# Altium schematic symbol library Logic Gates.SchLib: 1 symbol
Pins are listed as number, name and electrical type; pins without a type are passive.

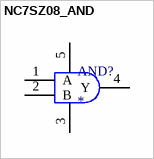
[diagram p0: symbol NC7SZ08_AND]

## NC7SZ08_AND
designator AND?
Digikey Part Number: NC7SZ08M5XCT-ND
footprint SOT23-5 (5 pin SOT 23)
pins: 1 A, 2 B, 3 GND, 4 Y, 5 VCC